# Altium integrated library Motorola Interface Stepper Motor Controller.IntLib: 3 symbols
Pins are listed as number, name and electrical type; pins without a type are passive.

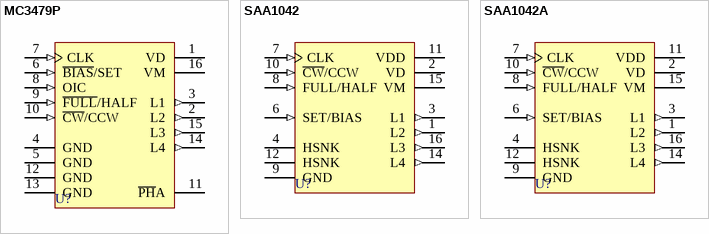
[diagram p0: symbols MC3479P to SAA1042A]

## MC3479P
designator U?
Stepper Motor Driver; Published: 17-Jul-2002; LatestRevisionDate: 06-Jun-2005; LatestRevisionNote: Stylized 3D Model Added.; DatasheetVersion: 1988; PackageReference: 648C-02; Publisher: Altium Limited; PackageDescription: DIP; 16 Leads; Row Spacing 7.62 mm; Pitch 2.54 mm; ComponentLink1Description: Manufacturer Link; ComponentLink1URL: http://www.onsemi.com/site/products/parametrics/0,4446,407,00.html; ComponentLink2Description: Datasheet; ComponentLink2URL: http://www.onsemi.com/pub/Collateral/MC3479-D.PDF
footprint 648C-02 (DIP; 16 Leads; Row Spacing 7.62 mm; Pitch 2.54 mm)
3D model 648C-02 (DIP; 16 Leads; Row Spacing 7.62 mm; Pitch 2.54 mm)
pins: 1 VD (power), 2 L2 (out), 3 L1 (out), 4 GND (power), 5 GND (power), 6 ~{BIAS}/SET (in), 7 CLK (in), 8 OIC (in), 9 ~{FULL}/HALF (in), 10 ~{CW}/CCW (in), 11 ~{PH}A (oc), 12 GND (power), 13 GND (power), 14 L4 (out), 15 L3 (out), 16 VM (power)

## SAA1042
designator U?
Stepper Motor Driver; Note: Case heat sink is electrically connected to Pin 9; Pins 4 and 5 are fused together and Pins 12 and 13 are fused together.; Published: 17-Jul-2002; DatasheetVersion: 1988; PackageReference: 721-02; Publisher: Altium Limited; PackageDescription: DIP; 16 Leads; Row Spacing 7.62 mm; Pitch 2.54 mm
footprint 721-02 (DIP; 16 Leads; Row Spacing 7.62 mm; Pitch 2.54 mm)
pins: 1 L2 (out), 2 VD (power), 3 L1 (out), 4 HSNK (power), 6 SET/BIAS (in), 7 CLK (in), 8 FULL/HALF (in), 9 GND (power), 10 ~{CW}/CCW (in), 11 VDD (power), 12 HSNK (power), 14 L4 (out), 15 VM (power), 16 L3 (out)

## SAA1042A
designator U?
Stepper Motor Driver; Note: Case heat sink is electrically connected to Pin 9; Pins 4 and 5 are fused together and Pins 12 and 13 are fused together.; Published: 17-Jul-2002; DatasheetVersion: 1988; PackageReference: 721-02; Publisher: Altium Limited; PackageDescription: DIP; 16 Leads; Row Spacing 7.62 mm; Pitch 2.54 mm
footprint 721-02 (DIP; 16 Leads; Row Spacing 7.62 mm; Pitch 2.54 mm)
pins: 1 L2 (out), 2 VD (power), 3 L1 (out), 4 HSNK (power), 6 SET/BIAS (in), 7 CLK (in), 8 FULL/HALF (in), 9 GND (power), 10 ~{CW}/CCW (in), 11 VDD (power), 12 HSNK (power), 14 L4 (out), 15 VM (power), 16 L3 (out)